# EAGLE library part SENSORHEADER (library third_eye)
PIN HEADER
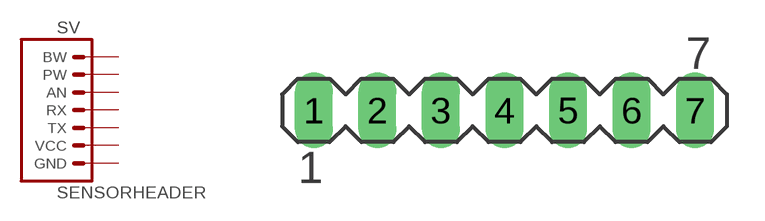
[diagram p4: symbol with the pads of MA07-1; footprint MA07-1]

Designator prefix SV

## SENSORHEADER (OC_FARNELL: unknown; OC_NEWARK: unknown)  [MA07-1]
1  GND  pas
2  VCC  pas
3  TX  pas
4  RX  pas
5  AN  pas
6  PW  pas
7  BW  pas

## Footprint MA07-1 (pad centres in mm)
PIN HEADER
drill 1.016 long: 1 -7.62,0; 2 -5.08,0; 3 -2.54,0; 4 0,0; 5 2.54,0; 6 5.08,0; 7 7.62,0